# Altium schematic symbol library ICs-FlashMemory.SchLib: 3 symbols
Pins are listed as number, name and electrical type; pins without a type are passive.

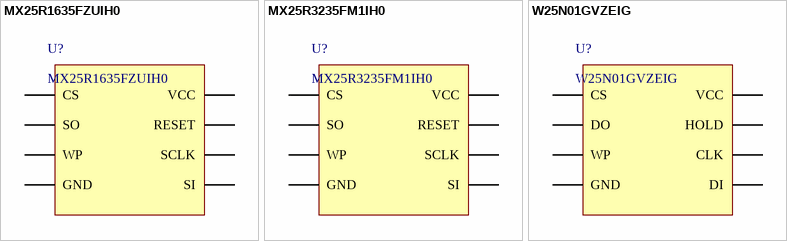
[diagram p0: symbols MX25R1635FZUIH0 to W25N01GVZEIG]

## MX25R1635FZUIH0
designator U?
Manufacturer: Macronix; PartNumber: MX25R1635FZUIH0; Mounting Technology: Surface Mount; PackageReference: USON-8
footprint USON-8 (SON, 8-Leads, Body 2.00x3.00mm, Pitch 0.50mm, Thermal Pad 1.60x0.20mm, IPC Medium Density); pin to pad 4>4+9
pins: 1 CS, 2 SO, 3 WP, 4 GND, 5 SI (power), 6 SCLK, 7 RESET, 8 VCC

## MX25R3235FM1IH0
designator U?
IC FLASH 32M(4M x 8) SPI 80MHZ 8SOP; Manufacturer: Macronix; PartNumber: MX25R3235FM1IH0; Mounting Technology: Surface Mount; PackageReference: SOP-8
footprint SOIC-8 (SOIC, 8-Leads, Body 4.90x3.90mm, Pitch 1.27mm, IPC Medium Density)
pins: 1 CS, 2 SO, 3 WP, 4 GND, 5 SI (power), 6 SCLK, 7 RESET, 8 VCC

## W25N01GVZEIG
designator U?
Manufacturer: Winbond Electronics; PartNumber: W25N01GVZEIG; Mounting Technology: Surface Mount; PackageReference: WSON-8
footprint WSON-8 (6X8MM) (SON, 8-Leads, Body 6.00x8.00mm, Pitch 1.27mm, Thermal Pad 5.20x4.65mm, IPC Medium Density); pin to pad 4>4+9
pins: 1 CS, 2 DO, 3 WP, 4 GND, 5 DI (power), 6 CLK, 7 HOLD, 8 VCC